# Altium footprint library 四旋翼pcb库.PcbLib: 21 footprints (part 1 of 2)
Each footprint in its own frame and in the unit in brackets; x right, y up, seen from the top. Pads: shape width x height; smd on the part's side, far side on the other; paste and mask are expansions set on the pad; w line width, h text height; cw(c..) or ccw(c..) is an arc to the next point about the centre after c.
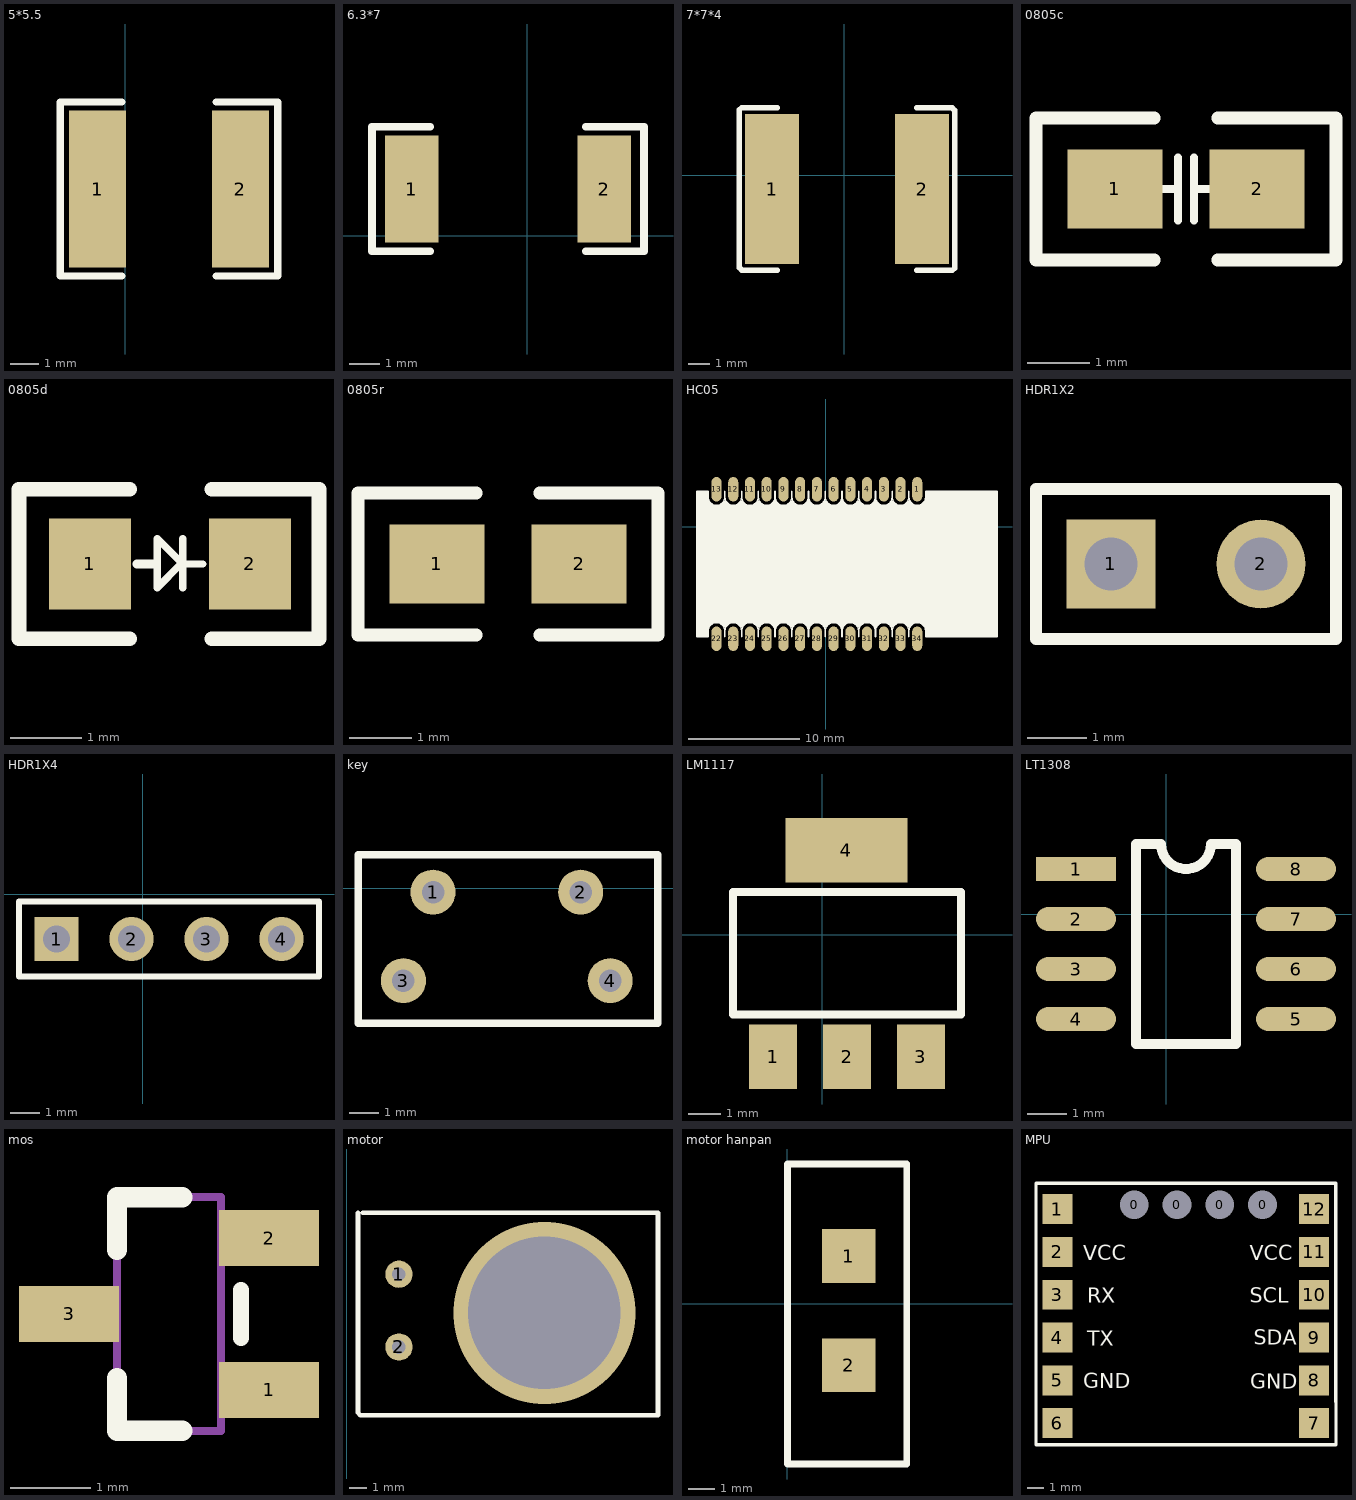
[diagram p0: the footprints below, top view; thin cyan lines are the x and y axes]

## 5*5.5 [mm]
pads (2):
  rect 2x5.5 smd: 1(-0.976,-6.223) 2(4.024,-6.223)
Top Overlay:
  lines w0.254: -0.126,-9.271 -2.286,-9.271 -2.286,-3.175 -0.126,-3.175 ; 3.174,-9.271 5.334,-9.271 5.334,-3.175 3.174,-3.175

## 6.3*7 [mm]
pads (2):
  rect 1.75x3.5 smd: 1(-3.785,1.524) 2(2.515,1.524)
Top Overlay:
  lines w0.254: -3.175,-0.508 -5.08,-0.508 -5.08,3.556 -3.175,3.556 ; 1.905,-0.508 3.81,-0.508 3.81,3.556 1.905,3.556

## 7*7*4 [mm]
pads (2):
  rect 2.5x7 smd: 1(-3.373,-0.635) 2(3.627,-0.635)
Top Overlay:
  lines w0.254: -4.782,-4.435 -3.128,-4.435 ; -4.782,-4.425 -4.899,-4.308 -4.899,3.058 -4.782,3.165 ; -4.699,3.165 -3.128,3.165 ; 3.382,-4.435 4.953,-4.435 ; 3.382,3.165 5.036,3.165 ; 5.036,-4.435 5.153,-4.328 5.153,3.038 5.036,3.155

## 0805c [mil]
pads (2):
  rect 60x50 smd: 1(2510,-3475) 2(2600,-3475)
Top Overlay:
  lines w5: 2540,-3475 2550,-3475 ; 2550,-3495 2550,-3455 ; 2560,-3495 2560,-3455 ; 2560,-3475 2570,-3475
  lines w8: 2535,-3520 2460,-3520 2460,-3430 2535,-3430 ; 2575,-3520 2650,-3520 2650,-3430 2575,-3430

## 0805d [mil]
pads (2):
  rect 45x50 smd: 1(-10080,11320) 2(-9992,11320)
Top Overlay:
  lines w4: -10029,11307 -10029,11334 ; -10018,11320 -10029,11320 ; -10029,11320 -10030,11320 -10043,11307 -10043,11334 -10029,11320
  lines w5: -10054,11320 -10044,11320
  lines w8: -10058,11279 -10119,11279 -10119,11361 -10058,11361 ; -10013,11279 -9954,11279 -9954,11361 -10013,11361

## 0805r [mil]
pads (2):
  rect 60x50 smd: 1(17380,-520) 2(17470,-520)
Top Overlay:
  lines w8: 17405,-565 17330,-565 17330,-475 17405,-475 ; 17445,-565 17520,-565 17520,-475 17445,-475

## HC05 [mm]
pads (26):
  oval 0.9x2.2 smd: 1(8.199,3.353) 2(6.699,3.353) 3(5.199,3.353) 4(3.699,3.353) 5(2.199,3.353) 6(0.699,3.353) 7(-0.801,3.353) 8(-2.301,3.353) 9(-3.801,3.353) 10(-5.301,3.353) 11(-6.801,3.353) 12(-8.301,3.353) 13(-9.801,3.353) 22(-9.801,-10.047) 23(-8.301,-10.047) 24(-6.801,-10.047) 25(-5.301,-10.047) 26(-3.801,-10.047) 27(-2.301,-10.047) 28(-0.801,-10.047) 29(0.699,-10.047) 30(2.199,-10.047) 31(3.699,-10.047) 32(5.199,-10.047) 33(6.699,-10.047) 34(8.199,-10.047)
Top Overlay:
  rectangle: -10.551,-9.022 -10.401,-8.822
  rectangle: -10.551,-8.822 -10.226,-8.647
  rectangle: -10.551,2.128 -10.401,2.328
  rectangle: -10.551,1.953 -10.226,2.128
  rectangle: -10.551,-8.647 8.949,1.953
  rectangle: 8.949,-9.847 15.349,3.153
  rectangle: -11.551,-9.847 -10.551,3.153
  rectangle: 8.789,-9.007 9.109,-8.747
  rectangle: 8.599,-8.772 9.299,-8.622
  rectangle: 7.289,-9.007 7.609,-8.747
  rectangle: 7.099,-8.772 7.799,-8.622
  rectangle: 5.789,-9.007 6.109,-8.747
  rectangle: 5.599,-8.772 6.299,-8.622
  rectangle: 4.289,-9.007 4.609,-8.747
  rectangle: 4.099,-8.772 4.799,-8.622
  rectangle: 2.789,-9.007 3.109,-8.747
  rectangle: 2.599,-8.772 3.299,-8.622
  rectangle: 1.289,-9.007 1.609,-8.747
  rectangle: 1.099,-8.772 1.799,-8.622
  rectangle: -0.211,-9.007 0.109,-8.747
  rectangle: -0.401,-8.772 0.299,-8.622
  rectangle: -1.711,-9.007 -1.391,-8.747
  rectangle: -1.901,-8.772 -1.201,-8.622
  rectangle: -3.211,-9.007 -2.891,-8.747
  rectangle: -3.401,-8.772 -2.701,-8.622
  rectangle: -4.711,-9.007 -4.391,-8.747
  rectangle: -4.901,-8.772 -4.201,-8.622
  rectangle: -6.211,-9.007 -5.891,-8.747
  rectangle: -6.401,-8.772 -5.701,-8.622
  rectangle: -7.711,-9.007 -7.391,-8.747
  rectangle: -7.901,-8.772 -7.201,-8.622
  rectangle: -9.211,-9.007 -8.891,-8.747
  rectangle: -9.401,-8.772 -8.701,-8.622
  rectangle: 8.789,2.053 9.109,2.313
  rectangle: 8.599,1.928 9.299,2.078
  rectangle: 7.289,2.053 7.609,2.313
  rectangle: 7.099,1.928 7.799,2.078
  rectangle: 5.789,2.053 6.109,2.313
  rectangle: 5.599,1.928 6.299,2.078
  rectangle: 4.289,2.053 4.609,2.313
  rectangle: 4.099,1.928 4.799,2.078
  rectangle: 2.789,2.053 3.109,2.313
  rectangle: 2.599,1.928 3.299,2.078
  rectangle: 1.289,2.053 1.609,2.313
  rectangle: 1.099,1.928 1.799,2.078
  rectangle: -0.211,2.053 0.109,2.313
  rectangle: -0.401,1.928 0.299,2.078
  rectangle: -1.711,2.053 -1.391,2.313
  rectangle: -1.901,1.928 -1.201,2.078
  rectangle: -3.211,2.053 -2.891,2.313
  rectangle: -3.401,1.928 -2.701,2.078
  rectangle: -4.711,2.053 -4.391,2.313
  rectangle: -4.901,1.928 -4.201,2.078
  rectangle: -6.211,2.053 -5.891,2.313
  rectangle: -6.401,1.928 -5.701,2.078
  rectangle: -7.711,2.053 -7.391,2.313
  rectangle: -7.901,1.928 -7.201,2.078
  rectangle: -9.211,2.053 -8.891,2.313
  rectangle: -9.401,1.928 -8.701,2.078
  lines w0.152: -9.051,-9.197 -9.051,-9.847 -9.051,-9.347 ; 8.949,-9.347 ccw(c8.199,-9.347) 7.449,-9.347 ccw(c6.699,-9.347) 5.949,-9.347 ccw(c5.199,-9.347) 4.449,-9.347 ccw(c3.699,-9.347) 2.949,-9.347 ccw(c2.199,-9.347) 1.449,-9.347 ccw(c0.699,-9.347) -0.051,-9.347 ccw(c-0.801,-9.347) -1.551,-9.347 ccw(c-2.301,-9.347) -3.051,-9.347 ccw(c-3.801,-9.347) -4.551,-9.347 ccw(c-5.301,-9.347) -6.051,-9.347 ccw(c-6.801,-9.347) -7.551,-9.347 ccw(c-8.301,-9.347) -9.051,-9.347 ; 8.949,-9.197 8.949,-9.847 15.349,-9.847 15.349,3.153 8.949,3.153 8.949,2.653 cw(c8.199,2.653) 7.449,2.653 ; -9.051,-9.347 ccw(c-9.801,-9.347) -10.551,-9.347 -10.551,-9.847 -11.551,-9.847 -11.551,3.153 -10.551,3.153 -10.551,2.653 ccw(c-9.801,2.653) -9.051,2.653 ; -9.051,2.653 ccw(c-8.301,2.653) -7.551,2.653 ; -9.051,2.653 -9.051,3.153 -9.051,2.653 ; -7.551,2.653 ccw(c-6.801,2.653) -6.051,2.653 ; -7.551,2.653 -7.551,3.153 -7.551,2.653 ; -6.051,2.653 ccw(c-5.301,2.653) -4.551,2.653 ; -6.051,2.653 -6.051,3.153 -6.051,2.653 ; -4.551,2.653 ccw(c-3.801,2.653) -3.051,2.653 ; -4.551,2.653 -4.551,3.153 -4.551,2.653 ; -3.051,2.653 ccw(c-2.301,2.653) -1.551,2.653 ; -3.051,2.653 -3.051,3.153 -3.051,2.653 ; -1.551,2.653 ccw(c-0.801,2.653) -0.051,2.653 ; -1.551,2.653 -1.551,3.153 -1.551,2.653 ; -0.051,2.653 ccw(c0.699,2.653) 1.449,2.653 ; -0.051,2.653 -0.051,3.153 -0.051,2.653 ; 1.449,2.653 ccw(c2.199,2.653) 2.949,2.653 ; 1.449,2.653 1.449,3.153 1.449,2.653 ; 2.949,2.653 ccw(c3.699,2.653) 4.449,2.653 ; 2.949,2.653 2.949,3.153 2.949,2.653 ; 4.449,2.653 ccw(c5.199,2.653) 5.949,2.653 ; 4.449,2.653 4.449,3.153 4.449,2.653 ; 5.949,2.653 ccw(c6.699,2.653) 7.449,2.653 ; 5.949,2.653 5.949,3.153 5.949,2.653 ; 7.449,2.653 7.449,3.153 7.449,2.653 ; -7.551,-9.847 -7.551,-9.197 -7.551,-9.847 ; -6.051,-9.847 -6.051,-9.197 -6.051,-9.847 ; -4.551,-9.847 -4.551,-9.197 -4.551,-9.847 ; -3.051,-9.847 -3.051,-9.197 -3.051,-9.847 ; -1.551,-9.847 -1.551,-9.197 -1.551,-9.847 ; -0.051,-9.847 -0.051,-9.197 -0.051,-9.847 ; 1.449,-9.847 1.449,-9.197 1.449,-9.847 ; 2.949,-9.847 2.949,-9.197 2.949,-9.847 ; 4.449,-9.847 4.449,-9.197 4.449,-9.847 ; 5.949,-9.847 5.949,-9.197 5.949,-9.847 ; 7.449,-9.847 7.449,-9.197 7.449,-9.847

## HDR1X2 [mm]
pads (2):
  rect 1.5x1.5 hole 0.9: 1(13.208,-11.684)
  round 1.5 hole 0.9: 2(15.748,-11.684)
Top Overlay:
  lines w0.2: 11.938,-12.954 17.018,-12.954 17.018,-10.414 11.938,-10.414 11.938,-12.954

## HDR1X4 [mm]
pads (4):
  rect 1.5x1.5 hole 0.9: 1(-2.921,-1.524)
  round 1.5 hole 0.9: 2(-0.381,-1.524) 3(2.159,-1.524) 4(4.699,-1.524)
Top Overlay:
  lines w0.2: -4.191,-2.794 -4.191,-0.254 5.969,-0.254 5.969,-2.794 -4.191,-2.794

## key [mil]
pads (4):
  round 60 hole 30: 1(360,-5) 2(556.85,-5) 3(320.63,-123.11) 4(596.22,-123.11)
Top Overlay:
  lines w10: 260,-180 260,45 660,45 660,-180 260,-180

## LM1117 [mil]
pads (4):
  rect 59x79 smd: 1(-60,-150) 2(30.55,-150) 3(121.1,-150)
  rect 150x79 smd: 4(29.88,103.54)
Top Overlay:
  lines w10: -109.45,-98 -109.45,52 170.55,52 170.55,-98 -109.45,-98

## LT1308 [mil]
pads (8):
  rect 80x24 smd: 1(-90,45)
  oval 80x24 smd: 2(-90,-5) 3(-90,-55) 4(-90,-105) 5(130,-105) 6(130,-55) 7(130,-5) 8(130,45)
Top Overlay:
  lines w10: -30,-130 -30,70 -5,70 ccw(c20,70) 45,70 70,70 70,-130 -30,-130

## mos [mm]
pads (3):
  rect 1.25x0.7 smd: 1(-71.725,-35.424) 2(-71.725,-33.524) 3(-74.225,-34.474)
Top Overlay:
  lines w0.2: -72.075,-34.774 -72.075,-34.174
  lines w0.254: -73.625,-35.274 -73.625,-35.934 -72.81,-35.934 ; -72.81,-33.014 -73.625,-33.014 ; -73.625,-33.674 -73.625,-33.014 ; -73.625,-33.674 -73.625,-33.014 ; -73.625,-33.674 -73.625,-33.014
Mechanical 13:
  lines w0.1: -73.625,-35.934 -73.625,-33.014 ; -73.625,-35.934 -72.325,-35.934 ; -73.625,-35.934 -72.325,-35.934 ; -73.625,-35.934 -73.625,-33.014 ; -73.625,-35.934 -72.325,-35.934 ; -73.625,-35.934 -73.625,-33.014 ; -73.625,-33.014 -72.325,-33.014 ; -73.625,-33.014 -72.325,-33.014 ; -73.625,-33.014 -72.325,-33.014 ; -72.325,-35.934 -72.325,-33.014 ; -72.325,-35.934 -72.325,-33.014 ; -72.325,-35.934 -72.325,-33.014
3D body "SOT-23.step": height 1.3, standoff 0, extent -74.475,-35.974 -71.475,-32.974

## motor [mil]
pads (2):
  round 60 hole 30: 1(115,-360) 2(115,-520)
via 435,-445 diameter 400 hole 335
Top Overlay:
  lines w10: 25,-225 25,-665 30,-670 685,-670 685,-225 35,-225

## motor hanpan [mil]
pads (2):
  rect 78.74x78.74 smd: 1(90,70) 2(90,-90)
Top Overlay:
  lines w10: 0,-235 0,205 175,205 175,-235 0,-235

## MPU [mil]
pads (16):
  oval 39.37x47.24 hole 66.93: 0(-4000.67,9848.11) 0(-3900.67,9848.11) 0(-3800.67,9848.11)
  rect 39.37x47.24 hole 66.93: 0(-3700.67,9848.11)
  rect 70x70 smd: 1(-4180.04,9837.74) 2(-4180.04,9737.74) 3(-4180.04,9637.74) 4(-4180.04,9537.74) 5(-4180.04,9437.74) 6(-4180.04,9337.74) 7(-3580.04,9337.74) 8(-3580.04,9437.74) 9(-3580.04,9537.74) 10(-3580.04,9637.74) 11(-3580.04,9737.74) 12(-3580.04,9837.74)
Top Overlay:
  lines w7.87: -4230.04,9387.74 -4230.04,9787.74 ; -3530.04,9787.74 -3530.04,9387.74 -3529.04,9387.74
  lines w8: -4230.04,9387.74 -4230.04,9286.74 -3529.04,9286.74 -3529.04,9387.74 ; -4230.04,9787.74 -4230.04,9898.74 -3530.04,9898.74 -3530.04,9787.74
  text "SCL" at -3730.04,9618.74 h35
  text "SDA" at -3721.61,9520.39 h35
  text "TX" at -4110.04,9518.74 h35
  text "RX" at -4110.04,9618.74 h35
  text "GND" at -3729.83,9417.9 h35
  text "GND" at -4120.04,9418.74 h35
  text "VCC" at -3730.04,9718.74 h35
  text "VCC" at -4120.04,9718.74 h35